# Altium footprint library Passive-Discrete.PcbLib: 30 footprints (part 1 of 2)
Each footprint in its own frame and in the unit in brackets; x right, y up, seen from the top. Pads: shape width x height; smd on the part's side, far side on the other; paste and mask are expansions set on the pad; w line width, h text height; cw(c..) or ccw(c..) is an arc to the next point about the centre after c.
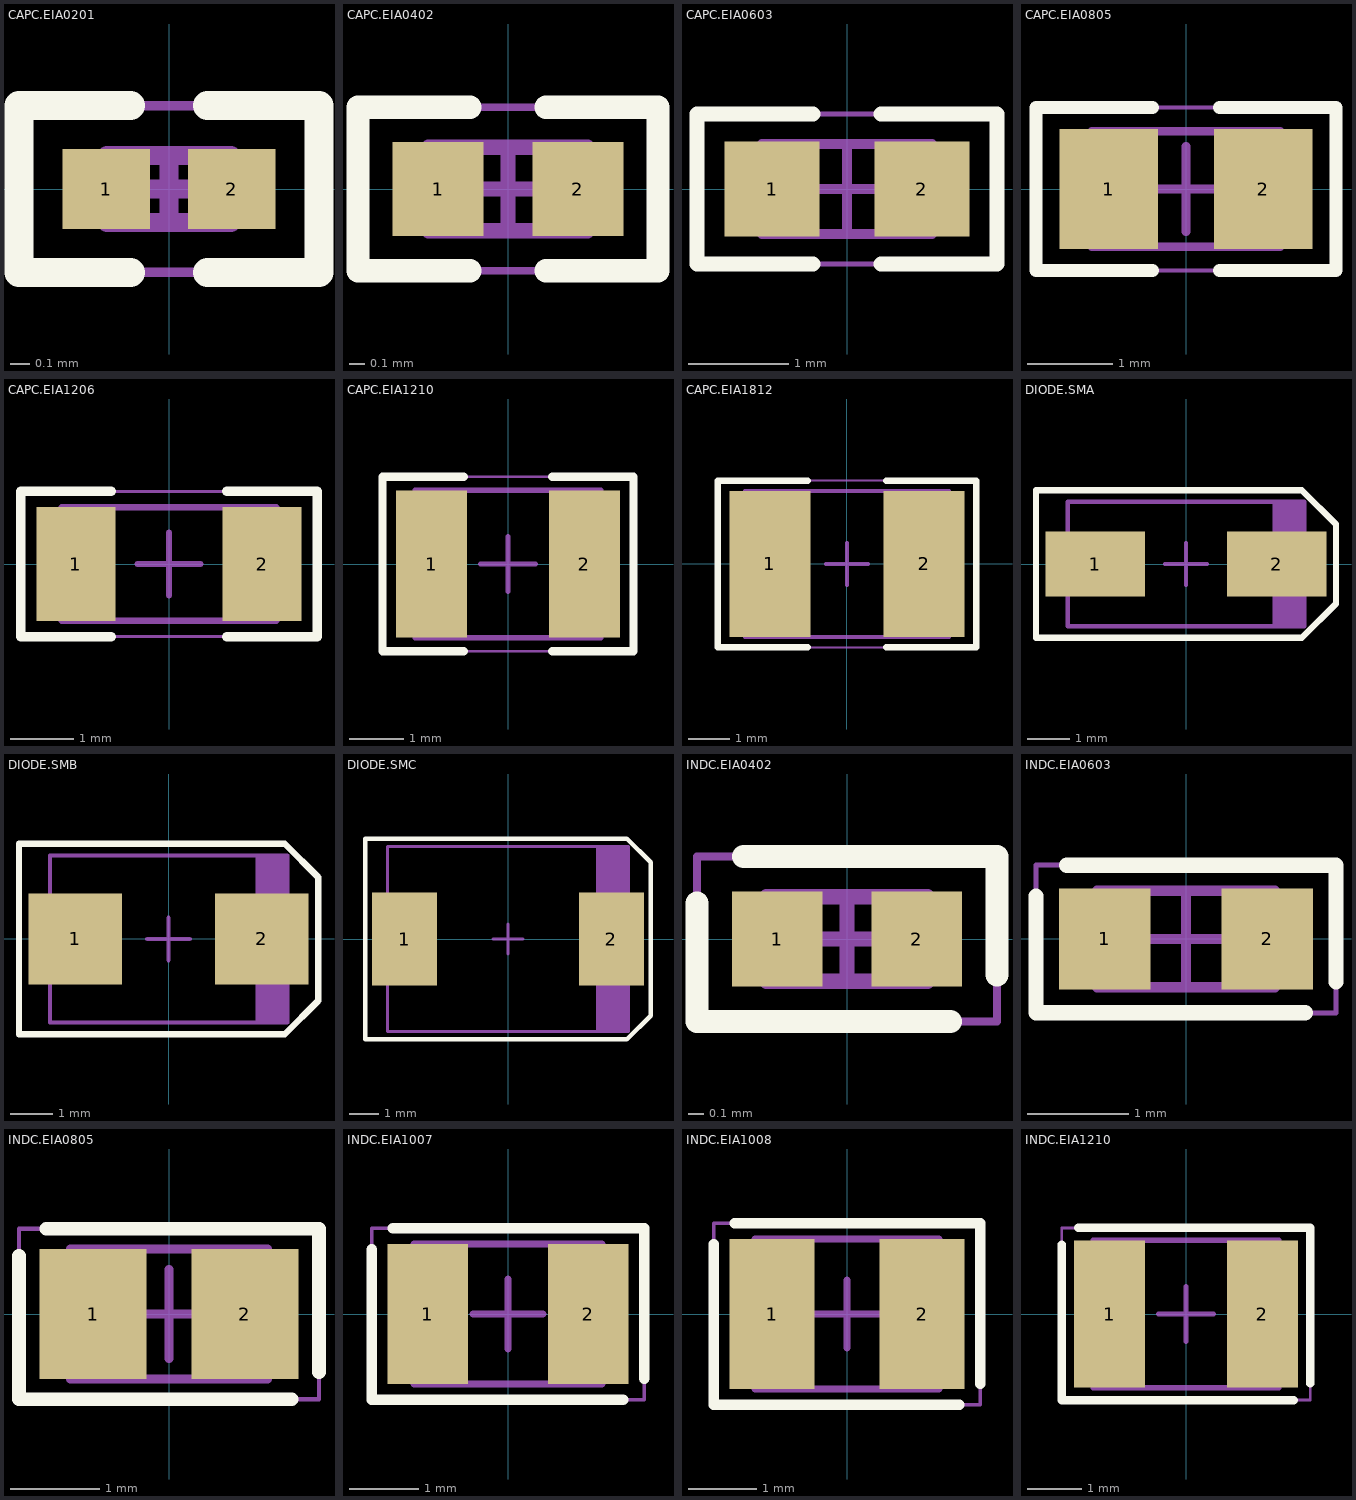
[diagram p0: the footprints below, top view; thin cyan lines are the x and y axes]

## CAPC.EIA0201 [mm] "Chip Capacitor, 2-Leads, Body 0.60x0.30mm, IPC Medium Density"
height 0.35
pads (2):
  rect 0.46x0.42 smd: 1(-0.33,0) 2(0.33,0)
Top Overlay:
  lines w0.152: -0.202,-0.439 -0.789,-0.439 -0.789,0.439 -0.202,0.439 ; 0.202,-0.439 0.789,-0.439 0.789,0.439 0.202,0.439
Mechanical 13:
  lines w0.1: -0.325,-0.175 -0.325,0.175 0.325,0.175 0.325,-0.175 -0.325,-0.175
Mechanical 15:
  lines w0.05: -0.789,-0.439 0.789,-0.439 0.789,0.439 -0.789,0.439 -0.789,-0.439
  lines w0.1: -0.175,0 0.175,0 ; 0,-0.175 0,0.175
3D body "CAPC.EIA0201.step": height 0.35, standoff 0, extent -0.325,-0.175 0.325,0.175

## CAPC.EIA0402 [mm] "Chip Capacitor, 2-Leads, Body 1.00x0.50mm, IPC Medium Density"
height 0.55
pads (2):
  rect 0.6x0.62 smd: 1(-0.46,0) 2(0.46,0)
Top Overlay:
  lines w0.152: -0.252,-0.539 -0.989,-0.539 -0.989,0.539 -0.252,0.539 ; 0.252,-0.539 0.989,-0.539 0.989,0.539 0.252,0.539
Mechanical 13:
  lines w0.1: -0.525,-0.275 -0.525,0.275 0.525,0.275 0.525,-0.275 -0.525,-0.275
Mechanical 15:
  lines w0.05: -0.989,-0.539 -0.989,0.539 0.989,0.539 0.989,-0.539 -0.989,-0.539
  lines w0.1: -0.275,0 0.275,0 ; 0,-0.275 0,0.275
3D body "CAPC.EIA0402.step": height 0.55, standoff 0, extent -0.525,-0.275 0.525,0.275

## CAPC.EIA0603 [mm] "Chip Capacitor, 2-Leads, Body 1.60x0.80mm, IPC Medium Density"
height 0.9
pads (2):
  rect 0.95x0.95 smd: 1(-0.75,0) 2(0.75,0)
Top Overlay:
  lines w0.152: -0.341,-0.75 -1.5,-0.75 -1.5,0.75 -0.341,0.75 ; 0.341,-0.75 1.5,-0.75 1.5,0.75 0.341,0.75
Mechanical 13:
  lines w0.1: -0.85,-0.45 0.85,-0.45 0.85,0.45 -0.85,0.45 -0.85,-0.45
Mechanical 15:
  lines w0.05: -1.5,-0.75 1.5,-0.75 1.5,0.75 -1.5,0.75 -1.5,-0.75
  lines w0.1: -0.45,0 0.45,0 ; 0,-0.45 0,0.45
3D body "CAPC.EIA0603.step": height 0.9, standoff 0, extent -0.85,-0.45 0.85,0.45

## CAPC.EIA0805 [mm] "Chip Capacitor, 2-Leads, Body 2.00x1.25mm, IPC Medium Density"
height 1.35
pads (2):
  rect 1.15x1.4 smd: 1(-0.9,0) 2(0.9,0)
Top Overlay:
  lines w0.152: -0.389,-0.95 -1.75,-0.95 -1.75,0.95 -0.389,0.95 ; 0.389,-0.95 1.75,-0.95 1.75,0.95 0.389,0.95
Mechanical 13:
  lines w0.1: -1.1,-0.675 1.1,-0.675 1.1,0.675 -1.1,0.675 -1.1,-0.675
Mechanical 15:
  lines w0.05: -1.75,-0.95 1.75,-0.95 1.75,0.95 -1.75,0.95 -1.75,-0.95
  lines w0.1: -0.5,0 0.5,0 ; 0,-0.5 0,0.5
3D body "CAPC.EIA0805.step": height 1.35, standoff 0, extent -1.1,-0.675 1.1,0.675

## CAPC.EIA1206 [mm] "Chip Capacitor, 2-Leads, Body 3.20x1.60mm, IPC Medium Density"
height 1.8
pads (2):
  rect 1.25x1.8 smd: 1(-1.475,0) 2(1.475,0)
Top Overlay:
  lines w0.152: -0.914,-1.15 -2.35,-1.15 -2.35,1.15 -0.914,1.15 ; 0.914,-1.15 2.35,-1.15 2.35,1.15 0.914,1.15
Mechanical 13:
  lines w0.1: -1.7,-0.9 -1.7,0.9 1.7,0.9 1.7,-0.9 -1.7,-0.9
Mechanical 15:
  lines w0.05: -2.35,-1.15 -2.35,1.15 2.35,1.15 2.35,-1.15 -2.35,-1.15
  lines w0.1: -0.5,0 0.5,0 ; 0,-0.5 0,0.5
3D body "CAPC.EIA1206.step": height 1.8, standoff 0, extent -1.7,-0.9 1.7,0.9

## CAPC.EIA1210 [mm] "Chip Capacitor, 2-Leads, Body 3.20x2.50mm, IPC Medium Density"
height 2.7
pads (2):
  rect 1.3x2.7 smd: 1(-1.4,0) 2(1.4,0)
Top Overlay:
  lines w0.152: -0.813,-1.6 -2.3,-1.6 -2.3,1.6 -0.813,1.6 ; 0.813,-1.6 2.3,-1.6 2.3,1.6 0.813,1.6
Mechanical 13:
  lines w0.1: -1.7,-1.35 1.7,-1.35 1.7,1.35 -1.7,1.35 -1.7,-1.35
Mechanical 15:
  lines w0.05: -2.3,-1.6 2.3,-1.6 2.3,1.6 -2.3,1.6 -2.3,-1.6
  lines w0.1: -0.5,0 0.5,0 ; 0,-0.5 0,0.5
3D body "CAPC.EIA1210.step": height 2.7, standoff 0, extent -1.7,-1.35 1.7,1.35

## CAPC.EIA1812 [mm] "Chip Capacitor, 2-Leads, Body 4.50x3.20mm, IPC Medium Density"
height 3.5
pads (2):
  rect 1.95x3.5 smd: 1(-1.85,0) 2(1.85,0)
Top Overlay:
  lines w0.152: -0.938,-2 -3.1,-2 -3.1,2 -0.938,2 ; 0.938,-2 3.1,-2 3.1,2 0.938,2
Mechanical 13:
  lines w0.1: -2.45,-1.75 2.45,-1.75 2.45,1.75 -2.45,1.75 -2.45,-1.75
Mechanical 15:
  lines w0.05: -3.1,-2 3.1,-2 3.1,2 -3.1,2 -3.1,-2
  lines w0.1: -0.5,0 0.5,0 ; 0,-0.5 0,0.5
3D body "CAPC.EIA1812.step": height 3.5, standoff 0, extent -2.45,-1.75 2.45,1.75

## DIODE.SMA [mm] "Molded Diode, 2-Leads, Body 5.20x2.60mm, IPC Medium Density"
height 2.4
pads (2):
  rect 2.35x1.55 smd: 1(-2.15,0) 2(2.15,0)
Top Overlay:
  lines w0.152: -3.554,-1.75 -3.554,1.75 2.745,1.75 3.554,0.941 3.554,-0.941 2.745,-1.75 -3.554,-1.75
Mechanical 13:
  rectangle: 2.047,-1.475 2.8,1.475
  lines w0.1: -2.8,-1.475 -2.8,1.475 2.8,1.475 2.8,-1.475 -2.8,-1.475
Mechanical 15:
  lines w0.05: -3.554,-1.75 -3.554,1.75 2.745,1.75 3.554,0.941 3.554,-0.941 2.745,-1.75 -3.554,-1.75
  lines w0.1: -0.5,0 0.5,0 ; 0,-0.5 0,0.5
3D body "DIODE.SMA.step": height 2.4, standoff 0, extent -3.02,-1.475 3.02,1.475

## DIODE.SMB [mm] "Molded Diode, 2-Leads, Body 5.40x3.62mm, IPC Medium Density"
height 2.5
pads (2):
  rect 2.2x2.15 smd: 1(-2.2,0) 2(2.2,0)
Top Overlay:
  lines w0.152: -3.529,-2.25 2.74,-2.25 3.529,-1.461 3.529,1.461 2.74,2.25 -3.529,2.25 -3.529,-2.25
Mechanical 13:
  rectangle: 2.047,-1.97 2.8,1.97
  lines w0.1: -2.8,-1.97 -2.8,1.97 2.8,1.97 2.8,-1.97 -2.8,-1.97
Mechanical 15:
  lines w0.05: -3.529,-2.25 2.74,-2.25 3.55,-1.44 3.55,1.44 2.74,2.25 -3.529,2.25 -3.529,-2.25
  lines w0.1: -0.5,0 0.5,0 ; 0,-0.5 0,0.5
3D body "DIODE.SMB.step": height 2.5, standoff 0, extent -3.02,-1.97 3.02,1.97

## DIODE.SMC [mm] "Molded Diode, 2-Leads, Body 7.95x5.90mm, IPC Medium Density"
height 2.62
pads (2):
  rect 2.2x3.15 smd: 1(-3.5,0) 2(3.5,0)
Top Overlay:
  lines w0.152: -4.829,-3.4 -4.829,3.4 4.02,3.4 4.829,2.591 4.829,-2.591 4.02,-3.4 -4.829,-3.4
Mechanical 13:
  rectangle: 2.979,-3.125 4.075,3.125
  lines w0.1: -4.075,-3.125 -4.075,3.125 4.075,3.125 4.075,-3.125 -4.075,-3.125
Mechanical 15:
  lines w0.05: -4.829,-3.4 -4.829,3.4 4.02,3.4 4.826,2.594 4.826,-2.594 4.02,-3.4 -4.829,-3.4
  lines w0.1: -0.5,0 0.5,0 ; 0,-0.5 0,0.5
3D body "DIODE.SMC.step": height 2.62, standoff 0, extent -4.295,-3.125 4.295,3.125

## INDC.EIA0402 [mm] "Chip Inductor, 2-Leads, Body 1.00x0.50mm, IPC Medium Density"
height 0.55
pads (2):
  rect 0.59x0.62 smd: 1(-0.455,0) 2(0.455,0)
Top Overlay:
  lines w0.152: -0.979,0.234 -0.979,-0.539 0.674,-0.539 ; -0.674,0.539 0.979,0.539 0.979,-0.234
Mechanical 13:
  lines w0.1: -0.525,-0.275 0.525,-0.275 0.525,0.275 -0.525,0.275 -0.525,-0.275
Mechanical 15:
  lines w0.05: -0.979,-0.539 0.979,-0.539 0.979,0.539 -0.979,0.539 -0.979,-0.539
  lines w0.1: -0.275,0 0.275,0 ; 0,-0.275 0,0.275
3D body "INDC.EIA0402.step": height 0.55, standoff 0, extent -0.525,-0.275 0.525,0.275

## INDC.EIA0603 [mm] "Chip Inductor, 2-Leads, Body 1.60x0.80mm, IPC Medium Density"
height 0.95
pads (2):
  rect 0.9x1 smd: 1(-0.8,0) 2(0.8,0)
Top Overlay:
  lines w0.152: -1.479,0.424 -1.479,-0.729 1.174,-0.729 ; -1.174,0.729 1.479,0.729 1.479,-0.424
Mechanical 13:
  lines w0.1: -0.875,-0.475 0.875,-0.475 0.875,0.475 -0.875,0.475 -0.875,-0.475
Mechanical 15:
  lines w0.05: -1.479,-0.729 1.479,-0.729 1.479,0.729 -1.479,0.729 -1.479,-0.729
  lines w0.1: -0.475,0 0.475,0 ; 0,-0.475 0,0.475
3D body "INDC.EIA0603.step": height 0.95, standoff 0, extent -0.875,-0.475 0.875,0.475

## INDC.EIA0805 [mm] "Chip Inductor, 2-Leads, Body 2.00x1.25mm, IPC Medium Density"
height 1.45
pads (2):
  rect 1.2x1.45 smd: 1(-0.85,0) 2(0.85,0)
Top Overlay:
  lines w0.152: -1.679,0.649 -1.679,-0.954 1.374,-0.954 ; -1.374,0.954 1.679,0.954 1.679,-0.649
Mechanical 13:
  lines w0.1: -1.1,-0.725 -1.1,0.725 1.1,0.725 1.1,-0.725 -1.1,-0.725
Mechanical 15:
  lines w0.05: -1.679,-0.954 -1.679,0.954 1.679,0.954 1.679,-0.954 -1.679,-0.954
  lines w0.1: -0.5,0 0.5,0 ; 0,-0.5 0,0.5
3D body "INDC.EIA0805.step": height 1.45, standoff 0, extent -1.1,-0.725 1.1,0.725

## INDC.EIA1007 [mm] "Chip Inductor, 2-Leads, Body 2.50x1.80mm, IPC Medium Density"
height 2
pads (2):
  rect 1.15x2 smd: 1(-1.15,0) 2(1.15,0)
Top Overlay:
  lines w0.152: -1.954,0.924 -1.954,-1.229 1.649,-1.229 ; -1.649,1.229 1.954,1.229 1.954,-0.924
Mechanical 13:
  lines w0.1: -1.35,-1 -1.35,1 1.35,1 1.35,-1 -1.35,-1
Mechanical 15:
  lines w0.05: -1.954,-1.229 -1.954,1.229 1.954,1.229 1.954,-1.229 -1.954,-1.229
  lines w0.1: -0.5,0 0.5,0 ; 0,-0.5 0,0.5
3D body "INDC.EIA1007.step": height 2, standoff 0, extent -1.35,-1 1.35,1

## INDC.EIA1008 [mm] "Chip Inductor, 2-Leads, Body 2.50x2.00mm, IPC Medium Density"
height 2.2
pads (2):
  rect 1.25x2.2 smd: 1(-1.1,0) 2(1.1,0)
Top Overlay:
  lines w0.152: -1.954,1.024 -1.954,-1.329 1.649,-1.329 ; -1.649,1.329 1.954,1.329 1.954,-1.024
Mechanical 13:
  lines w0.1: -1.35,-1.1 1.35,-1.1 1.35,1.1 -1.35,1.1 -1.35,-1.1
Mechanical 15:
  lines w0.05: -1.954,-1.329 1.954,-1.329 1.954,1.329 -1.954,1.329 -1.954,-1.329
  lines w0.1: -0.5,0 0.5,0 ; 0,-0.5 0,0.5
3D body "INDC.EIA1008.step": height 2.2, standoff 0, extent -1.35,-1.1 1.35,1.1

## INDC.EIA1210 [mm] "Chip Inductor, 2-Leads, Body 3.20x2.50mm, IPC Medium Density"
height 2.7
pads (2):
  rect 1.3x2.7 smd: 1(-1.4,0) 2(1.4,0)
Top Overlay:
  lines w0.152: -2.279,1.274 -2.279,-1.579 1.974,-1.579 ; -1.974,1.579 2.279,1.579 2.279,-1.274
Mechanical 13:
  lines w0.1: -1.7,-1.35 -1.7,1.35 1.7,1.35 1.7,-1.35 -1.7,-1.35
Mechanical 15:
  lines w0.05: -2.279,-1.579 -2.279,1.579 2.279,1.579 2.279,-1.579 -2.279,-1.579
  lines w0.1: -0.5,0 0.5,0 ; 0,-0.5 0,0.5
3D body "INDC.EIA1210.step": height 2.7, standoff 0, extent -1.7,-1.35 1.7,1.35